# Altium footprint library Molex Footprints.PcbLib: 498 footprints (part 25 of 32)
Each footprint in its own frame and in the unit in brackets; x right, y up, seen from the top. Pads: shape width x height; smd on the part's side, far side on the other; paste and mask are expansions set on the pad; w line width, h text height; cw(c..) or ccw(c..) is an arc to the next point about the centre after c.
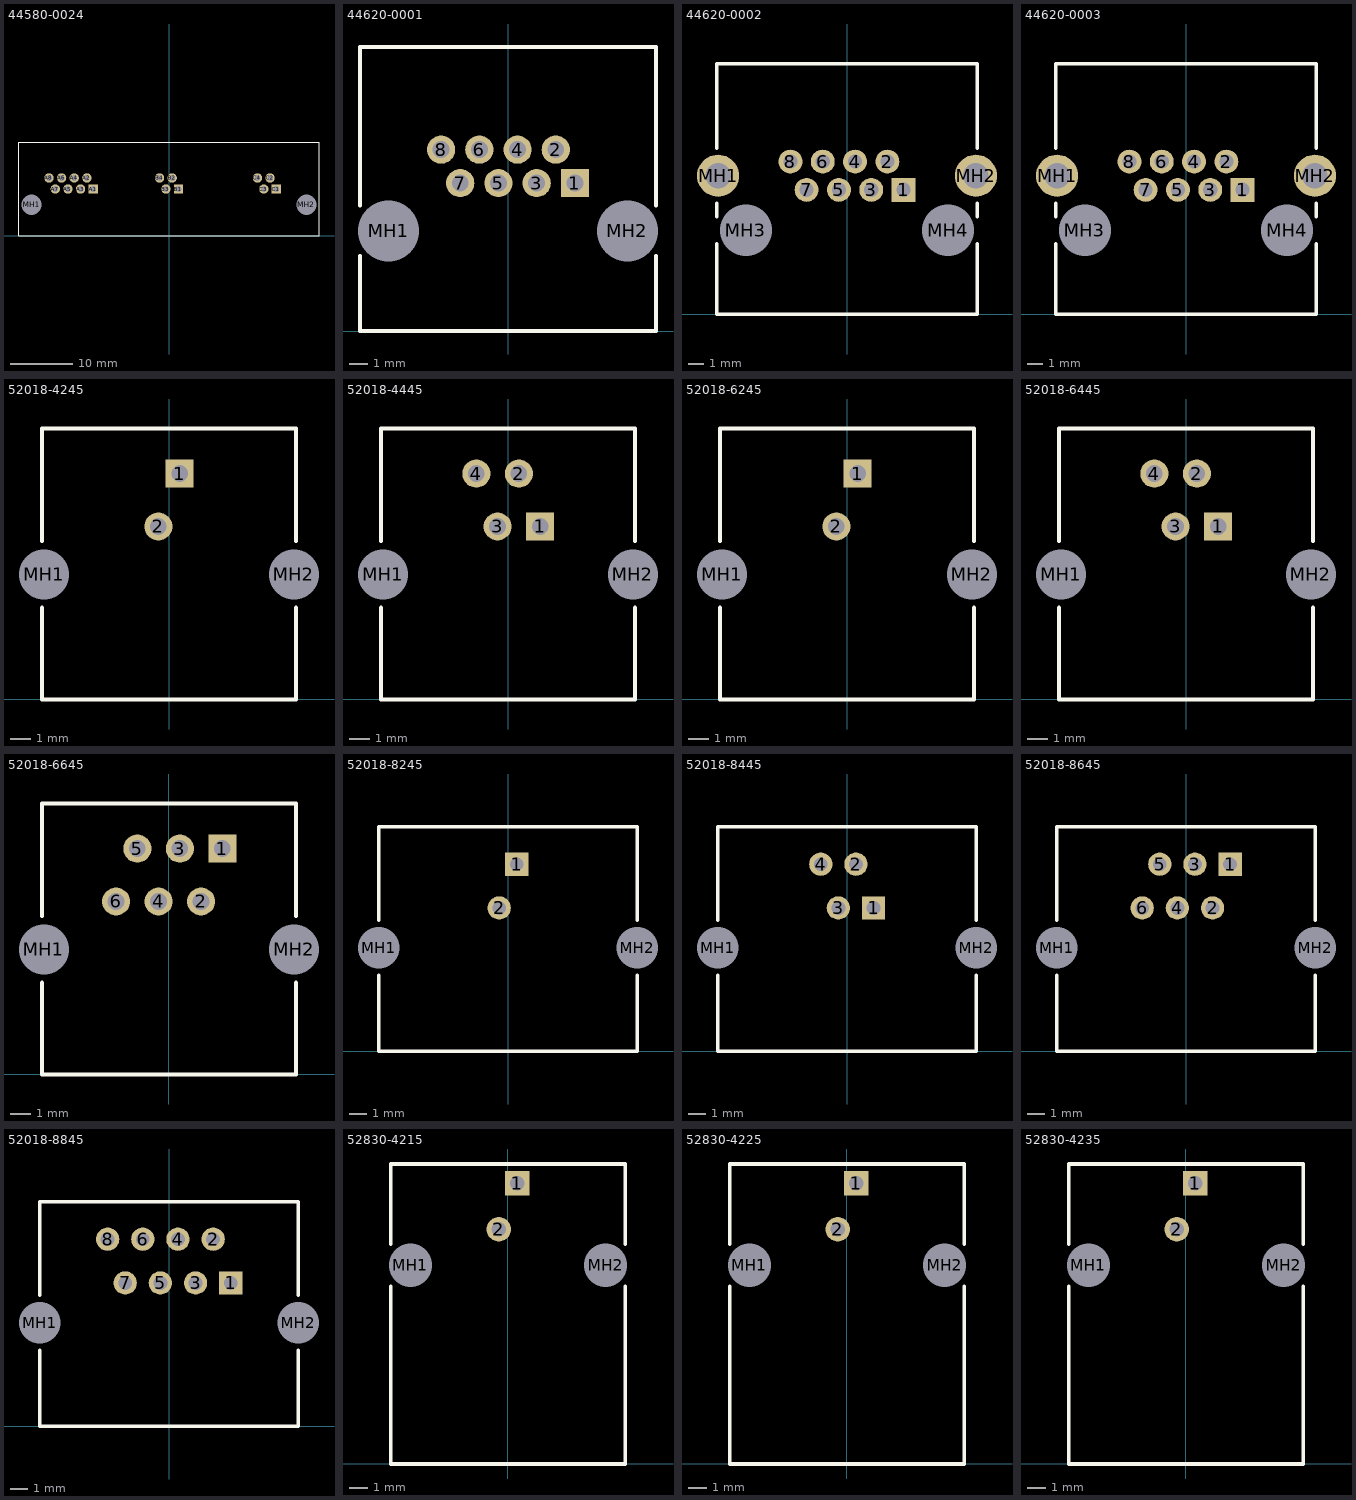
[diagram p24: the footprints below, top view; thin cyan lines are the x and y axes]

## 44580-0024 [mm] "Connector; PCB Jack, Thru-Hole; 3-Port; Unshielded without Lightpipes; Right Angle"
height 13.21
pads (18):
  rect 1.5x1.5 hole 0.9: A1(-12.192,7.49) B1(1.524,7.49) C1(17.272,7.49)
  round 1.5 hole 0.9: A2(-13.208,9.268) A3(-14.224,7.49) A4(-15.24,9.268) A5(-16.256,7.49) A6(-17.272,9.268) A7(-18.288,7.49) A8(-19.304,9.268) B2(0.508,9.268) B3(-0.508,7.49) B4(-1.524,9.268) C2(16.256,9.268) C3(15.24,7.49) C4(14.224,9.268)
  round 2.95 hole 3.25 unplated: MH1(-22.098,4.95) MH2(22.098,4.95)
Top Overlay:
  lines w0.2: -24.123,0 24.123,0 24.123,14.99 -24.123,14.99 -24.123,0

## 44620-0001 [mm] "Connector; PCB Jack, Thru-Hole; 1-Port, 8 Positions, 8 Loaded; Unshielded without Lightpipes; Right Angle"
height 13.21
pads (10):
  rect 1.5x1.5 hole 0.9: 1(3.556,7.87)
  round 1.5 hole 0.9: 2(2.54,9.648) 3(1.524,7.87) 4(0.508,9.648) 5(-0.508,7.87) 6(-1.524,9.648) 7(-2.54,7.87) 8(-3.556,9.648)
  round 2.95 hole 3.25 unplated: MH1(-6.35,5.33) MH2(6.35,5.33)
Top Overlay:
  lines w0.2: -7.875,3.998 -7.875,0 7.875,0 7.875,3.998 ; -7.875,6.662 -7.875,15.11 7.875,15.11 7.875,6.662

## 44620-0002 [mm] "Connector; PCB Jack, Thru-Hole; 1-Port, 8 Positions, 8 Loaded; Shielded without Lightpipes; Right Angle"
height 13.53
pads (12):
  rect 1.5x1.5 hole 0.9: 1(3.556,7.82)
  round 1.5 hole 0.9: 2(2.54,9.598) 3(1.524,7.82) 4(0.508,9.598) 5(-0.508,7.82) 6(-1.524,9.598) 7(-2.54,7.82) 8(-3.556,9.598)
  round 2.65 hole 1.6: MH1(-8.103,8.709) MH2(8.103,8.709)
  round 2.95 hole 3.25 unplated: MH3(-6.35,5.28) MH4(6.35,5.28)
Top Overlay:
  lines w0.2: -8.19,4.434 -8.19,0 8.19,0 8.19,4.434 ; -8.19,6.126 -8.19,6.986 ; -8.19,10.432 -8.19,15.75 8.19,15.75 8.19,10.432 ; 8.19,6.126 8.19,6.986

## 44620-0003 [mm] "Connector; PCB Jack, Thru-Hole; 1-Port, 8 Positions, 8 Loaded; Shielded without Lightpipes; Right Angle"
height 13.53
pads (12):
  rect 1.5x1.5 hole 0.9: 1(3.556,7.82)
  round 1.5 hole 0.9: 2(2.54,9.598) 3(1.524,7.82) 4(0.508,9.598) 5(-0.508,7.82) 6(-1.524,9.598) 7(-2.54,7.82) 8(-3.556,9.598)
  round 2.65 hole 1.6: MH1(-8.103,8.709) MH2(8.103,8.709)
  round 2.95 hole 3.25 unplated: MH3(-6.35,5.28) MH4(6.35,5.28)
Top Overlay:
  lines w0.2: -8.19,4.434 -8.19,0 8.19,0 8.19,4.434 ; -8.19,6.126 -8.19,6.986 ; -8.19,10.432 -8.19,15.75 8.19,15.75 8.19,10.432 ; 8.19,6.126 8.19,6.986

## 52018-4245 [mm] "Connector; PCB Jack, Thru-Hole; 1-Port, 4 Positions, 2 Loaded; Unshielded without Lightpipes; Right Angle"
height 14.5
pads (4):
  rect 1.35x1.35 hole 0.8: 1(0.51,10.84)
  round 1.35 hole 0.8: 2(-0.51,8.3)
  round 2.1 hole 2.4 unplated: MH1(-6,6) MH2(6,6)
Top Overlay:
  lines w0.2: -6.1,4.4 -6.1,0 6.1,0 6.1,4.4 ; -6.1,7.6 -6.1,13 6.1,13 6.1,7.6

## 52018-4445 [mm] "Connector; PCB Jack, Thru-Hole; 1-Port, 4 Positions, 4 Loaded; Unshielded without Lightpipes; Right Angle"
height 14.5
pads (6):
  rect 1.35x1.35 hole 0.8: 1(1.54,8.3)
  round 1.35 hole 0.8: 2(0.52,10.84) 3(-0.5,8.3) 4(-1.52,10.84)
  round 2.1 hole 2.4 unplated: MH1(-6,6) MH2(6,6)
Top Overlay:
  lines w0.2: -6.1,4.4 -6.1,0 6.1,0 6.1,4.4 ; -6.1,7.6 -6.1,13 6.1,13 6.1,7.6

## 52018-6245 [mm] "Connector; PCB Jack, Thru-Hole; 1-Port, 6 Positions, 2 Loaded; Unshielded without Lightpipes; Right Angle"
height 14.5
pads (4):
  rect 1.35x1.35 hole 0.8: 1(0.51,10.84)
  round 1.35 hole 0.8: 2(-0.51,8.3)
  round 2.1 hole 2.4 unplated: MH1(-6,6) MH2(6,6)
Top Overlay:
  lines w0.2: -6.1,4.4 -6.1,0 6.1,0 6.1,4.4 ; -6.1,7.6 -6.1,13 6.1,13 6.1,7.6

## 52018-6445 [mm] "Connector; PCB Jack, Thru-Hole; 1-Port, 6 Positions, 4 Loaded; Unshielded without Lightpipes; Right Angle"
height 14.5
pads (6):
  rect 1.35x1.35 hole 0.8: 1(1.54,8.3)
  round 1.35 hole 0.8: 2(0.52,10.84) 3(-0.5,8.3) 4(-1.52,10.84)
  round 2.1 hole 2.4 unplated: MH1(-6,6) MH2(6,6)
Top Overlay:
  lines w0.2: -6.1,4.4 -6.1,0 6.1,0 6.1,4.4 ; -6.1,7.6 -6.1,13 6.1,13 6.1,7.6

## 52018-6645 [mm] "Connector; PCB Jack, Thru-Hole; 1-Port, 6 Positions, 6 Loaded; Unshielded without Lightpipes; Right Angle"
height 14.5
pads (8):
  rect 1.35x1.35 hole 0.8: 1(2.56,10.84)
  round 1.35 hole 0.8: 2(1.54,8.3) 3(0.52,10.84) 4(-0.5,8.3) 5(-1.52,10.84) 6(-2.54,8.3)
  round 2.1 hole 2.4 unplated: MH1(-6,6) MH2(6,6)
Top Overlay:
  lines w0.2: -6.1,4.4 -6.1,0 6.1,0 6.1,4.4 ; -6.1,7.6 -6.1,13 6.1,13 6.1,7.6

## 52018-8245 [mm] "Connector; PCB Jack, Thru-Hole; 1-Port, 8 Positions, 2 Loaded; Unshielded without Lightpipes; Right Angle"
height 14.5
pads (4):
  rect 1.35x1.35 hole 0.8: 1(0.51,10.84)
  round 1.35 hole 0.8: 2(-0.51,8.3)
  round 2.1 hole 2.4 unplated: MH1(-7.5,6) MH2(7.5,6)
Top Overlay:
  lines w0.2: -7.5,4.4 -7.5,0 7.5,0 7.5,4.4 ; -7.5,7.6 -7.5,13 7.5,13 7.5,7.6

## 52018-8445 [mm] "Connector; PCB Jack, Thru-Hole; 1-Port, 8 Positions, 4 Loaded; Unshielded without Lightpipes; Right Angle"
height 14.5
pads (6):
  rect 1.35x1.35 hole 0.8: 1(1.54,8.3)
  round 1.35 hole 0.8: 2(0.52,10.84) 3(-0.5,8.3) 4(-1.52,10.84)
  round 2.1 hole 2.4 unplated: MH1(-7.5,6) MH2(7.5,6)
Top Overlay:
  lines w0.2: -7.5,4.4 -7.5,0 7.5,0 7.5,4.4 ; -7.5,7.6 -7.5,13 7.5,13 7.5,7.6

## 52018-8645 [mm] "Connector; PCB Jack, Thru-Hole; 1-Port, 8 Positions, 6 Loaded; Unshielded without Lightpipes; Right Angle"
height 14.5
pads (8):
  rect 1.35x1.35 hole 0.8: 1(2.56,10.84)
  round 1.35 hole 0.8: 2(1.54,8.3) 3(0.52,10.84) 4(-0.5,8.3) 5(-1.52,10.84) 6(-2.54,8.3)
  round 2.1 hole 2.4 unplated: MH1(-7.5,6) MH2(7.5,6)
Top Overlay:
  lines w0.2: -7.5,4.4 -7.5,0 7.5,0 7.5,4.4 ; -7.5,7.6 -7.5,13 7.5,13 7.5,7.6

## 52018-8845 [mm] "Connector; PCB Jack, Thru-Hole; 1-Port, 8 Positions, 8 Loaded; Unshielded without Lightpipes; Right Angle"
height 14.5
pads (10):
  rect 1.35x1.35 hole 0.8: 1(3.58,8.3)
  round 1.35 hole 0.8: 2(2.56,10.84) 3(1.54,8.3) 4(0.52,10.84) 5(-0.5,8.3) 6(-1.52,10.84) 7(-2.54,8.3) 8(-3.56,10.84)
  round 2.1 hole 2.4 unplated: MH1(-7.5,6) MH2(7.5,6)
Top Overlay:
  lines w0.2: -7.5,4.4 -7.5,0 7.5,0 7.5,4.4 ; -7.5,7.6 -7.5,13 7.5,13 7.5,7.6

## 52830-4215 [mm] "Connector; PCB Jack, Thru-Hole; 1-Port, 4 Positions, 2 Loaded; Unshielded without Lightpipes; Right Angle"
height 14.5
pads (4):
  rect 1.35x1.35 hole 0.8: 1(0.51,15.54)
  round 1.35 hole 0.8: 2(-0.51,13)
  round 2.1 hole 2.4 unplated: MH1(-5.4,11) MH2(5.4,11)
Top Overlay:
  lines w0.2: -6.5,9.838 -6.5,0 6.5,0 6.5,9.838 ; -6.5,12.162 -6.5,16.615 6.5,16.615 6.5,12.162

## 52830-4225 [mm] "Connector; PCB Jack, Thru-Hole; 1-Port, 4 Positions, 2 Loaded; Unshielded without Lightpipes; Right Angle"
height 14.5
pads (4):
  rect 1.35x1.35 hole 0.8: 1(0.51,15.54)
  round 1.35 hole 0.8: 2(-0.51,13)
  round 2.1 hole 2.4 unplated: MH1(-5.4,11) MH2(5.4,11)
Top Overlay:
  lines w0.2: -6.5,9.838 -6.5,0 6.5,0 6.5,9.838 ; -6.5,12.162 -6.5,16.615 6.5,16.615 6.5,12.162

## 52830-4235 [mm] "Connector; PCB Jack, Thru-Hole; 1-Port, 4 Positions, 2 Loaded; Unshielded without Lightpipes; Right Angle"
height 14.5
pads (4):
  rect 1.35x1.35 hole 0.8: 1(0.51,15.54)
  round 1.35 hole 0.8: 2(-0.51,13)
  round 2.1 hole 2.4 unplated: MH1(-5.4,11) MH2(5.4,11)
Top Overlay:
  lines w0.2: -6.5,9.838 -6.5,0 6.5,0 6.5,9.838 ; -6.5,12.162 -6.5,16.615 6.5,16.615 6.5,12.162